# Altium schematic symbol library CON4.SchLib: 1 symbol
Pins are listed as number, name and electrical type; pins without a type are passive.

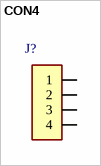
[diagram p0: symbol CON4]

## CON4
designator J?, comment 0532610471  (value not drawn)
ID: 0532610471; PDF: http://www.molex.com/pdm_docs/sd/532610671_sd.pdf; PRICE: 1.24000; BUY_LINK: http://www.digikey.com/product-detail/en/0532610471/WM7622CT-ND/699109
footprint MX-53261-0471
pins: 1, 2, 3, 4